# Altium footprint library Con IDC.PcbLib: 105 footprints (part 5 of 7)
Each footprint in its own frame and in the unit in brackets; x right, y up, seen from the top. Pads: shape width x height; smd on the part's side, far side on the other; paste and mask are expansions set on the pad; w line width, h text height; cw(c..) or ccw(c..) is an arc to the next point about the centre after c.
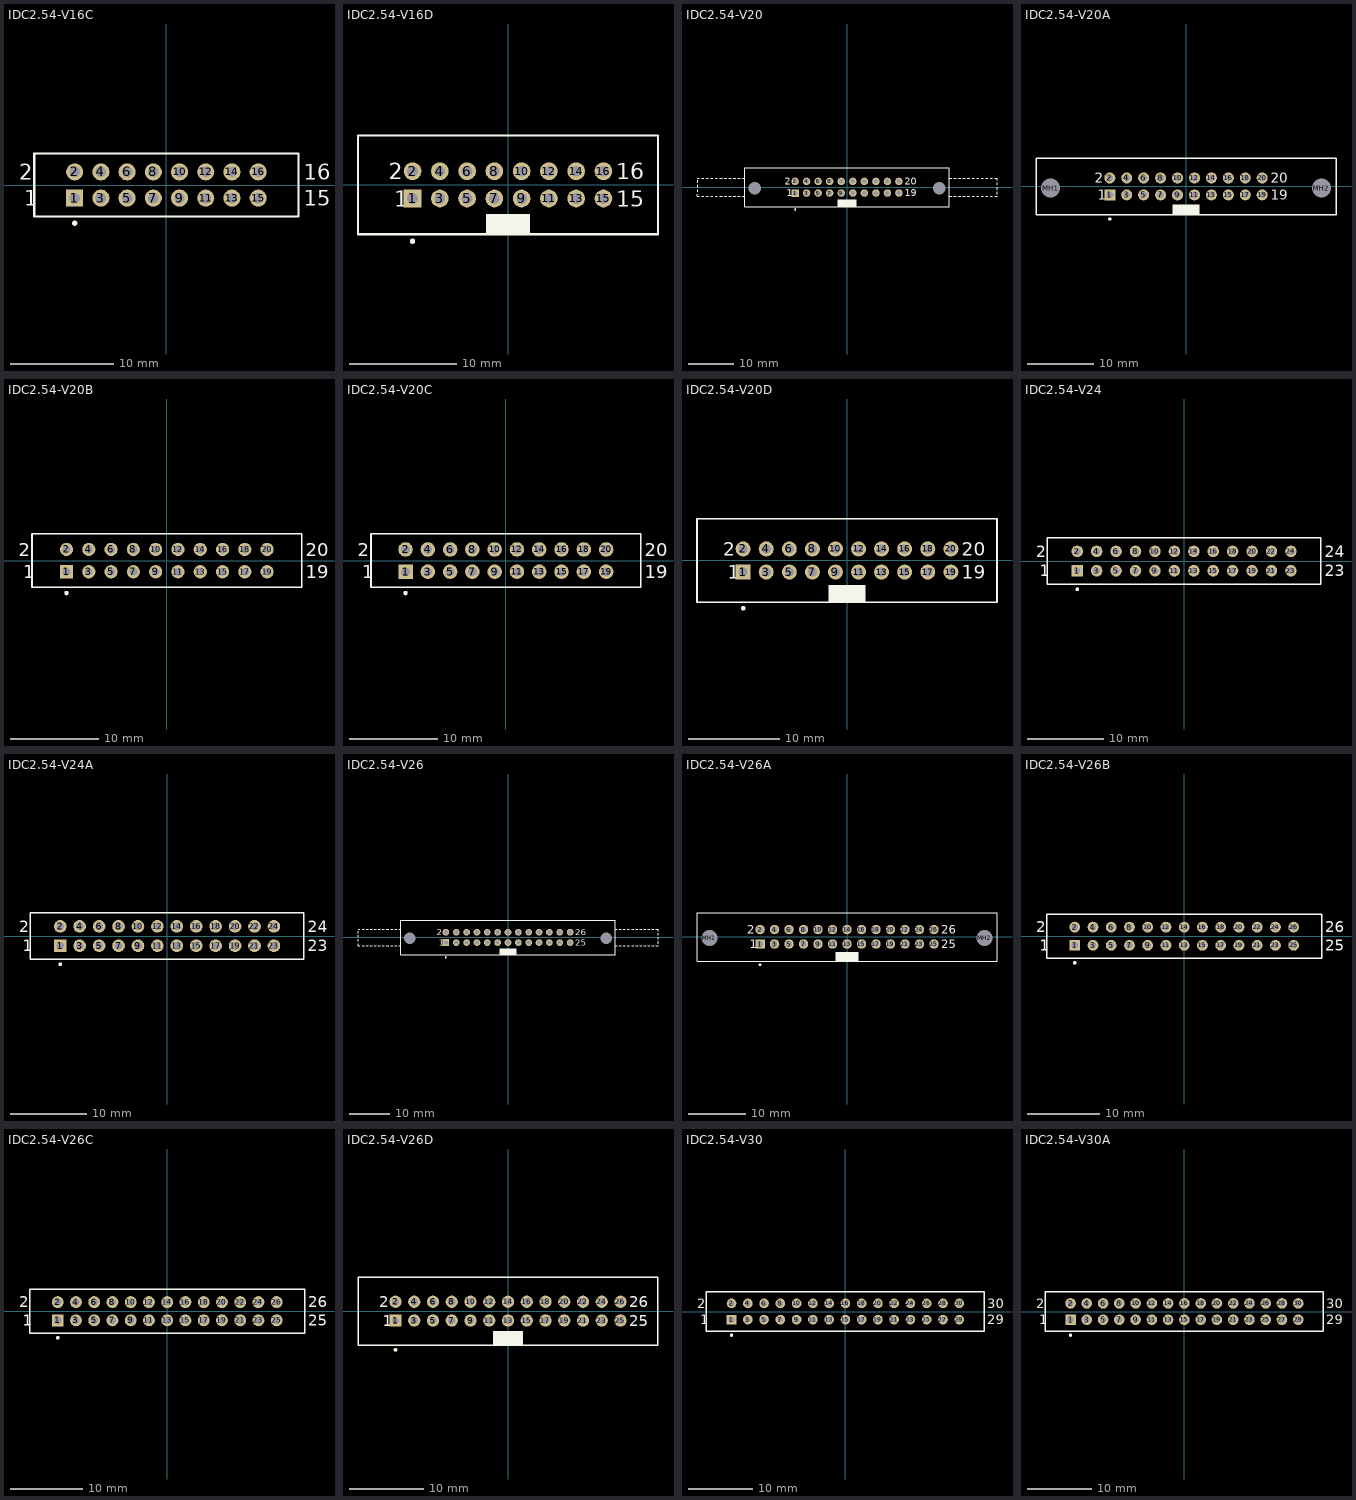
[diagram p4: the footprints below, top view; thin cyan lines are the x and y axes]

## IDC2.54-V16C [mm] "Connector; IDC, PCB Transition - 2 Rows, Thru-Hole; 16 Position; Vertical; Pitch 2.54 mm; Body 25.62 x 6.1 x 7.45 mm (LxWxH), Kinked Contacts"
height 7.45
pads (16):
  rect 1.65x1.65 hole 1: 1(-8.89,-1.27)
  round 1.65 hole 1: 2(-8.89,1.27) 3(-6.35,-1.27) 4(-6.35,1.27) 5(-3.81,-1.27) 6(-3.81,1.27) 7(-1.27,-1.27) 8(-1.27,1.27) 9(1.27,-1.27) 10(1.27,1.27) 11(3.81,-1.27) 12(3.81,1.27) 13(6.35,-1.27) 14(6.35,1.27) 15(8.89,-1.27) 16(8.89,1.27)
Top Overlay:
  circle w0.25: c-8.89,-3.7 r0.125
  lines w0.2: -12.81,-3.05 -12.81,3.05 12.81,3.05 12.81,-3.05 -12.81,-3.05
  text "2" at -14.285,0.52 h1.5
  text "1" at -13.785,-2.02 h1.5
  text "16" at 13.285,0.52 h1.5
  text "15" at 13.285,-2.02 h1.5

## IDC2.54-V16D [mm] "Connector; IDC, Low Profile Male Header, Thru-Hole; 16 Position; Vertical; Pitch 2.54 mm; Body 27.94 x 9.2 x 9.45 mm (LxWxH)"
height 9.45
pads (16):
  rect 1.65x1.65 hole 1: 1(-8.89,-1.27)
  round 1.65 hole 1: 2(-8.89,1.27) 3(-6.35,-1.27) 4(-6.35,1.27) 5(-3.81,-1.27) 6(-3.81,1.27) 7(-1.27,-1.27) 8(-1.27,1.27) 9(1.27,-1.27) 10(1.27,1.27) 11(3.81,-1.27) 12(3.81,1.27) 13(6.35,-1.27) 14(6.35,1.27) 15(8.89,-1.27) 16(8.89,1.27)
Top Overlay:
  circle w0.25: c-8.89,-5.25 r0.125
  rectangle: -2.05,-4.6 2.05,-2.7
  lines w0.2: -13.97,-4.6 -13.97,4.6 13.97,4.6 13.97,-4.6 -13.97,-4.6
  text "2" at -11.09,0.52 h1.5
  text "1" at -10.59,-2.02 h1.5
  text "16" at 10.09,0.52 h1.5
  text "15" at 10.09,-2.02 h1.5

## IDC2.54-V20 [mm] "Connector; IDC, Thru-Hole; 20 Position; Vertical; Pitch 2.54 mm; Body 45.00 x 8.5 x 25.75 mm (LxWxH), Locking levers"
height 25.75
pads (22):
  rect 1.65x1.65 hole 1: 1(-11.43,-1.27)
  round 1.65 hole 1: 2(-11.43,1.27) 3(-8.89,-1.27) 4(-8.89,1.27) 5(-6.35,-1.27) 6(-6.35,1.27) 7(-3.81,-1.27) 8(-3.81,1.27) 9(-1.27,-1.27) 10(-1.27,1.27) 11(1.27,-1.27) 12(1.27,1.27) 13(3.81,-1.27) 14(3.81,1.27) 15(6.35,-1.27) 16(6.35,1.27) 17(8.89,-1.27) 18(8.89,1.27) 19(11.43,-1.27) 20(11.43,1.27)
  round 2.5 hole 2.8 unplated: MH1(-20.32,-0.25) MH2(20.32,-0.25)
Top Overlay:
  circle w0.25: c-11.43,-4.9 r0.125
  rectangle: -2.05,-4.25 2.05,-2.7
  lines w0.2: -33.01,-0.5 -33,-1 ; -33.01,0.5 -33,0 ; -33.01,1.5 -33,1 ; -33,-1.5 -33,-2 -32.5,-2 ; -33,2 -32.5,2 ; -32,-2 -31.5,-2 ; -32,2 -31.5,2 ; -31,-2 -30.5,-2 ; -31,2 -30.5,2 ; -30,-2 -29.5,-2 ; -30,2 -29.5,2 ; -29,-2 -28.5,-2 ; -29,2 -28.5,2 ; -28,-2 -27.5,-2 ; -28,2 -27.5,2 ; -27,-2 -26.5,-2 ; -27,2 -26.5,2 ; -26,-2 -25.5,-2 ; -26,2 -25.5,2 ; -25,-2 -24.5,-2 ; -25,2 -24.5,2 ; -24,-2 -23.5,-2 ; -24,2 -23.5,2 ; -23,-2 -22.5,-2 ; -23,2 -22.5,2 ; 22.5,-2 23,-2 ; 22.5,2 23,2 ; 23.5,-2 24,-2 ; 23.5,2 24,2 ; 24.5,-2 25,-2 ; 24.5,2 25,2 ; 25.5,-2 26,-2 ; 25.5,2 26,2 ; 26.5,-2 27,-2 ; 26.5,2 27,2 ; 27.5,-2 28,-2 ; 27.5,2 28,2 ; 28.5,-2 29,-2 ; 28.5,2 29,2 ; 29.5,-2 30,-2 ; 29.5,2 30,2 ; 30.5,-2 31,-2 ; 30.5,2 31,2 ; 31.5,-2 32,-2 ; 31.5,2 32,2 ; 32.5,-2 33,-2 ; 32.5,2 33,2 33,1.5 ; 33,-1.5 33,-1 ; 33,-0.5 33,0 ; 33,0.5 33,1 ; -22.5,-4.25 -22.5,4.25 22.5,4.25 22.5,-4.25 -22.5,-4.25
  text "2" at -13.71,0.52 h1.5
  text "1" at -13.21,-2.02 h1.5
  text "20" at 12.71,0.52 h1.5
  text "19" at 12.71,-2.02 h1.5

## IDC2.54-V20A [mm] "Connector; IDC, Thru-Hole; 20 Position; Vertical; Pitch 2.54 mm; Body 45.00 x 8.5 x 17.30 mm (LxWxH), Without locking levers"
height 17.3
pads (22):
  rect 1.65x1.65 hole 1: 1(-11.43,-1.27)
  round 1.65 hole 1: 2(-11.43,1.27) 3(-8.89,-1.27) 4(-8.89,1.27) 5(-6.35,-1.27) 6(-6.35,1.27) 7(-3.81,-1.27) 8(-3.81,1.27) 9(-1.27,-1.27) 10(-1.27,1.27) 11(1.27,-1.27) 12(1.27,1.27) 13(3.81,-1.27) 14(3.81,1.27) 15(6.35,-1.27) 16(6.35,1.27) 17(8.89,-1.27) 18(8.89,1.27) 19(11.43,-1.27) 20(11.43,1.27)
  round 2.5 hole 2.8 unplated: MH1(-20.32,-0.25) MH2(20.32,-0.25)
Top Overlay:
  circle w0.25: c-11.43,-4.9 r0.125
  rectangle: -2.05,-4.25 2.05,-2.7
  lines w0.2: -22.5,-4.25 -22.5,4.25 22.5,4.25 22.5,-4.25 -22.5,-4.25
  text "2" at -13.71,0.52 h1.5
  text "1" at -13.21,-2.02 h1.5
  text "20" at 12.71,0.52 h1.5
  text "19" at 12.71,-2.02 h1.5

## IDC2.54-V20B [mm] "Connector; IDC, PCB Transition - 2 Rows, Thru-Hole; 20 Position; Vertical; Pitch 2.54 mm; Body 30.74 x 6.1 x 7.45 mm (LxWxH)"
height 7.45
pads (20):
  rect 1.5x1.5 hole 0.9: 1(-11.43,-1.27)
  round 1.5 hole 0.9: 2(-11.43,1.27) 3(-8.89,-1.27) 4(-8.89,1.27) 5(-6.35,-1.27) 6(-6.35,1.27) 7(-3.81,-1.27) 8(-3.81,1.27) 9(-1.27,-1.27) 10(-1.27,1.27) 11(1.27,-1.27) 12(1.27,1.27) 13(3.81,-1.27) 14(3.81,1.27) 15(6.35,-1.27) 16(6.35,1.27) 17(8.89,-1.27) 18(8.89,1.27) 19(11.43,-1.27) 20(11.43,1.27)
Top Overlay:
  circle w0.25: c-11.43,-3.7 r0.125
  lines w0.2: -15.37,-3.05 15.37,-3.05 15.37,3.05 -15.37,3.05 -15.37,-3.05
  text "19" at 15.845,-2.02 h1.5
  text "20" at 15.845,0.52 h1.5
  text "1" at -16.345,-2.02 h1.5
  text "2" at -16.845,0.52 h1.5

## IDC2.54-V20C [mm] "Connector; IDC, PCB Transition - 2 Rows, Thru-Hole; 20 Position; Vertical; Pitch 2.54 mm; Body 30.74 x 6.1 x 7.45 mm (LxWxH), Kinked Contacts"
height 7.45
pads (20):
  rect 1.65x1.65 hole 1: 1(-11.43,-1.27)
  round 1.65 hole 1: 2(-11.43,1.27) 3(-8.89,-1.27) 4(-8.89,1.27) 5(-6.35,-1.27) 6(-6.35,1.27) 7(-3.81,-1.27) 8(-3.81,1.27) 9(-1.27,-1.27) 10(-1.27,1.27) 11(1.27,-1.27) 12(1.27,1.27) 13(3.81,-1.27) 14(3.81,1.27) 15(6.35,-1.27) 16(6.35,1.27) 17(8.89,-1.27) 18(8.89,1.27) 19(11.43,-1.27) 20(11.43,1.27)
Top Overlay:
  circle w0.25: c-11.43,-3.7 r0.125
  lines w0.2: -15.37,-3.05 -15.37,3.05 15.37,3.05 15.37,-3.05 -15.37,-3.05
  text "2" at -16.845,0.52 h1.5
  text "1" at -16.345,-2.02 h1.5
  text "20" at 15.845,0.52 h1.5
  text "19" at 15.845,-2.02 h1.5

## IDC2.54-V20D [mm] "Connector; IDC, Low Profile Male Header, Thru-Hole; 20 Position; Vertical; Pitch 2.54 mm; Body 33.02 x 9.2 x 9.45 mm (LxWxH)"
height 9.45
pads (20):
  rect 1.65x1.65 hole 1: 1(-11.43,-1.27)
  round 1.65 hole 1: 2(-11.43,1.27) 3(-8.89,-1.27) 4(-8.89,1.27) 5(-6.35,-1.27) 6(-6.35,1.27) 7(-3.81,-1.27) 8(-3.81,1.27) 9(-1.27,-1.27) 10(-1.27,1.27) 11(1.27,-1.27) 12(1.27,1.27) 13(3.81,-1.27) 14(3.81,1.27) 15(6.35,-1.27) 16(6.35,1.27) 17(8.89,-1.27) 18(8.89,1.27) 19(11.43,-1.27) 20(11.43,1.27)
Top Overlay:
  circle w0.25: c-11.43,-5.25 r0.125
  rectangle: -2.05,-4.6 2.05,-2.7
  lines w0.2: -16.51,-4.6 16.51,-4.6 16.51,4.6 -16.51,4.6 -16.51,-4.6
  text "19" at 12.63,-2.02 h1.5
  text "20" at 12.63,0.52 h1.5
  text "1" at -13.13,-2.02 h1.5
  text "2" at -13.63,0.52 h1.5

## IDC2.54-V24 [mm] "Connector; IDC, PCB Transition - 2 Rows, Thru-Hole; 24 Position; Vertical; Pitch 2.54 mm; Body 35.78 x 6.1 x 7.45 mm (LxWxH)"
height 7.45
pads (24):
  rect 1.5x1.5 hole 0.9: 1(-13.97,-1.27)
  round 1.5 hole 0.9: 2(-13.97,1.27) 3(-11.43,-1.27) 4(-11.43,1.27) 5(-8.89,-1.27) 6(-8.89,1.27) 7(-6.35,-1.27) 8(-6.35,1.27) 9(-3.81,-1.27) 10(-3.81,1.27) 11(-1.27,-1.27) 12(-1.27,1.27) 13(1.27,-1.27) 14(1.27,1.27) 15(3.81,-1.27) 16(3.81,1.27) 17(6.35,-1.27) 18(6.35,1.27) 19(8.89,-1.27) 20(8.89,1.27) 21(11.43,-1.27) 22(11.43,1.27) 23(13.97,-1.27) 24(13.97,1.27)
Top Overlay:
  circle w0.25: c-13.97,-3.7 r0.125
  lines w0.2: -17.89,-3.05 17.89,-3.05 17.89,3.05 -17.89,3.05 -17.89,-3.05
  text "23" at 18.365,-2.02 h1.5
  text "24" at 18.365,0.52 h1.5
  text "1" at -18.865,-2.02 h1.5
  text "2" at -19.365,0.52 h1.5

## IDC2.54-V24A [mm] "Connector; IDC, PCB Transition - 2 Rows, Thru-Hole; 24 Position; Vertical; Pitch 2.54 mm; Body 35.78 x 6.1 x 7.45 mm (LxWxH), Kinked Contacts"
height 7.45
pads (24):
  rect 1.65x1.65 hole 1: 1(-13.97,-1.27)
  round 1.65 hole 1: 2(-13.97,1.27) 3(-11.43,-1.27) 4(-11.43,1.27) 5(-8.89,-1.27) 6(-8.89,1.27) 7(-6.35,-1.27) 8(-6.35,1.27) 9(-3.81,-1.27) 10(-3.81,1.27) 11(-1.27,-1.27) 12(-1.27,1.27) 13(1.27,-1.27) 14(1.27,1.27) 15(3.81,-1.27) 16(3.81,1.27) 17(6.35,-1.27) 18(6.35,1.27) 19(8.89,-1.27) 20(8.89,1.27) 21(11.43,-1.27) 22(11.43,1.27) 23(13.97,-1.27) 24(13.97,1.27)
Top Overlay:
  circle w0.25: c-13.97,-3.7 r0.125
  lines w0.2: -17.89,-3.05 -17.89,3.05 17.89,3.05 17.89,-3.05 -17.89,-3.05
  text "2" at -19.365,0.52 h1.5
  text "1" at -18.865,-2.02 h1.5
  text "24" at 18.365,0.52 h1.5
  text "23" at 18.365,-2.02 h1.5

## IDC2.54-V26 [mm] "Connector; IDC, Thru-Hole; 26 Position; Vertical; Pitch 2.54 mm; Body 52.60 x 8.5 x 25.75 mm (LxWxH), Locking levers"
height 25.75
pads (28):
  rect 1.65x1.65 hole 1: 1(-15.24,-1.27)
  round 1.65 hole 1: 2(-15.24,1.27) 3(-12.7,-1.27) 4(-12.7,1.27) 5(-10.16,-1.27) 6(-10.16,1.27) 7(-7.62,-1.27) 8(-7.62,1.27) 9(-5.08,-1.27) 10(-5.08,1.27) 11(-2.54,-1.27) 12(-2.54,1.27) 13(0,-1.27) 14(0,1.27) 15(2.54,-1.27) 16(2.54,1.27) 17(5.08,-1.27) 18(5.08,1.27) 19(7.62,-1.27) 20(7.62,1.27) 21(10.16,-1.27) 22(10.16,1.27) 23(12.7,-1.27) 24(12.7,1.27) 25(15.24,-1.27) 26(15.24,1.27)
  round 2.5 hole 2.8 unplated: MH1(-24.13,-0.25) MH2(24.13,-0.25)
Top Overlay:
  circle w0.25: c-15.24,-4.9 r0.125
  rectangle: -2.05,-4.25 2.05,-2.7
  lines w0.2: -36.8,-1.5 -36.8,-2 -36.31,-2 ; -36.8,-1 -36.8,-0.5 ; -36.8,0 -36.8,0.5 ; -36.8,1 -36.8,1.5 ; -36.8,2 -36.31,2 ; -35.81,-2 -35.31,-2 ; -35.81,2 -35.31,2 ; -34.81,-2 -34.31,-2 ; -34.81,2 -34.31,2 ; -33.81,-2 -33.31,-2 ; -33.81,2 -33.31,2 ; -32.81,-2 -32.31,-2 ; -32.81,2 -32.31,2 ; -31.81,-2 -31.31,-2 ; -31.81,2 -31.31,2 ; -30.81,-2 -30.31,-2 ; -30.81,2 -30.31,2 ; -29.81,-2 -29.31,-2 ; -29.81,2 -29.31,2 ; -28.81,-2 -28.31,-2 ; -28.81,2 -28.31,2 ; -27.81,-2 -27.31,-2 ; -27.81,2 -27.31,2 ; -26.81,-2 -26.3,-2 ; -26.81,2 -26.3,2 ; 26.3,-2 26.8,-2 ; 26.3,2 26.8,2 ; 27.3,-2 27.8,-2 ; 27.3,2 27.8,2 ; 28.3,-2 28.8,-2 ; 28.3,2 28.8,2 ; 29.3,-2 29.8,-2 ; 29.3,2 29.8,2 ; 30.3,-2 30.8,-2 ; 30.3,2 30.8,2 ; 31.3,-2 31.8,-2 ; 31.3,2 31.8,2 ; 32.3,-2 32.8,-2 ; 32.3,2 32.8,2 ; 33.3,-2 33.8,-2 ; 33.3,2 33.8,2 ; 34.3,-2 34.8,-2 ; 34.3,2 34.8,2 ; 35.3,-2 35.8,-2 ; 35.3,2 35.8,2 ; 36.3,-2 36.8,-2 ; 36.3,2 36.8,2 36.8,1.5 ; 36.8,-1.5 36.8,-1 ; 36.8,-0.5 36.8,0 ; 36.8,0.5 36.8,1 ; -26.3,-4.25 26.3,-4.25 26.3,4.25 -26.3,4.25 -26.3,-4.25
  text "25" at 16.52,-2.02 h1.5
  text "26" at 16.52,0.52 h1.5
  text "1" at -17.02,-2.02 h1.5
  text "2" at -17.52,0.52 h1.5

## IDC2.54-V26A [mm] "Connector; IDC, Thru-Hole; 26 Position; Vertical; Pitch 2.54 mm; Body 52.60 x 8.5 x 17.30 mm (LxWxH), Without locking levers"
height 17.3
pads (28):
  rect 1.65x1.65 hole 1: 1(-15.24,-1.27)
  round 1.65 hole 1: 2(-15.24,1.27) 3(-12.7,-1.27) 4(-12.7,1.27) 5(-10.16,-1.27) 6(-10.16,1.27) 7(-7.62,-1.27) 8(-7.62,1.27) 9(-5.08,-1.27) 10(-5.08,1.27) 11(-2.54,-1.27) 12(-2.54,1.27) 13(0,-1.27) 14(0,1.27) 15(2.54,-1.27) 16(2.54,1.27) 17(5.08,-1.27) 18(5.08,1.27) 19(7.62,-1.27) 20(7.62,1.27) 21(10.16,-1.27) 22(10.16,1.27) 23(12.7,-1.27) 24(12.7,1.27) 25(15.24,-1.27) 26(15.24,1.27)
  round 2.5 hole 2.8 unplated: MH1(-24.13,-0.25) MH2(24.13,-0.25)
Top Overlay:
  circle w0.25: c-15.24,-4.9 r0.125
  rectangle: -2.05,-4.25 2.05,-2.7
  lines w0.2: -26.3,-4.25 -26.3,4.25 26.3,4.25 26.3,-4.25 -26.3,-4.25
  text "2" at -17.52,0.52 h1.5
  text "1" at -17.02,-2.02 h1.5
  text "26" at 16.52,0.52 h1.5
  text "25" at 16.52,-2.02 h1.5

## IDC2.54-V26B [mm] "Connector; IDC, PCB Transition - 2 Rows, Thru-Hole; 26 Position; Vertical; Pitch 2.54 mm; Body 38.32 x 6.1 x 7.45 mm (LxWxH)"
height 7.45
pads (26):
  rect 1.5x1.5 hole 0.9: 1(-15.24,-1.27)
  round 1.5 hole 0.9: 2(-15.24,1.27) 3(-12.7,-1.27) 4(-12.7,1.27) 5(-10.16,-1.27) 6(-10.16,1.27) 7(-7.62,-1.27) 8(-7.62,1.27) 9(-5.08,-1.27) 10(-5.08,1.27) 11(-2.54,-1.27) 12(-2.54,1.27) 13(0,-1.27) 14(0,1.27) 15(2.54,-1.27) 16(2.54,1.27) 17(5.08,-1.27) 18(5.08,1.27) 19(7.62,-1.27) 20(7.62,1.27) 21(10.16,-1.27) 22(10.16,1.27) 23(12.7,-1.27) 24(12.7,1.27) 25(15.24,-1.27) 26(15.24,1.27)
Top Overlay:
  circle w0.25: c-15.24,-3.7 r0.125
  lines w0.2: -19.16,-3.05 19.16,-3.05 19.16,3.05 -19.16,3.05 -19.16,-3.05
  text "25" at 19.635,-2.02 h1.5
  text "26" at 19.635,0.52 h1.5
  text "1" at -20.135,-2.02 h1.5
  text "2" at -20.635,0.52 h1.5

## IDC2.54-V26C [mm] "Connector; IDC, PCB Transition - 2 Rows, Thru-Hole; 26 Position; Vertical; Pitch 2.54 mm; Body 38.32 x 6.1 x 7.45 mm (LxWxH), Kinked Contacts"
height 7.45
pads (26):
  rect 1.65x1.65 hole 1: 1(-15.24,-1.27)
  round 1.65 hole 1: 2(-15.24,1.27) 3(-12.7,-1.27) 4(-12.7,1.27) 5(-10.16,-1.27) 6(-10.16,1.27) 7(-7.62,-1.27) 8(-7.62,1.27) 9(-5.08,-1.27) 10(-5.08,1.27) 11(-2.54,-1.27) 12(-2.54,1.27) 13(0,-1.27) 14(0,1.27) 15(2.54,-1.27) 16(2.54,1.27) 17(5.08,-1.27) 18(5.08,1.27) 19(7.62,-1.27) 20(7.62,1.27) 21(10.16,-1.27) 22(10.16,1.27) 23(12.7,-1.27) 24(12.7,1.27) 25(15.24,-1.27) 26(15.24,1.27)
Top Overlay:
  circle w0.25: c-15.24,-3.7 r0.125
  lines w0.2: -19.16,-3.05 19.16,-3.05 19.16,3.05 -19.16,3.05 -19.16,-3.05
  text "25" at 19.635,-2.02 h1.5
  text "26" at 19.635,0.52 h1.5
  text "1" at -20.135,-2.02 h1.5
  text "2" at -20.635,0.52 h1.5

## IDC2.54-V26D [mm] "Connector; IDC, Low Profile Male Header, Thru-Hole; 26 Position; Vertical; Pitch 2.54 mm; Body 40.64 x 9.2 x 9.45 mm (LxWxH)"
height 9.45
pads (26):
  rect 1.65x1.65 hole 1: 1(-15.24,-1.27)
  round 1.65 hole 1: 2(-15.24,1.27) 3(-12.7,-1.27) 4(-12.7,1.27) 5(-10.16,-1.27) 6(-10.16,1.27) 7(-7.62,-1.27) 8(-7.62,1.27) 9(-5.08,-1.27) 10(-5.08,1.27) 11(-2.54,-1.27) 12(-2.54,1.27) 13(0,-1.27) 14(0,1.27) 15(2.54,-1.27) 16(2.54,1.27) 17(5.08,-1.27) 18(5.08,1.27) 19(7.62,-1.27) 20(7.62,1.27) 21(10.16,-1.27) 22(10.16,1.27) 23(12.7,-1.27) 24(12.7,1.27) 25(15.24,-1.27) 26(15.24,1.27)
Top Overlay:
  circle w0.25: c-15.24,-5.25 r0.125
  rectangle: -2.05,-4.6 2.05,-2.7
  lines w0.2: -20.32,-4.6 20.32,-4.6 20.32,4.6 -20.32,4.6 -20.32,-4.6
  text "25" at 16.44,-2.02 h1.5
  text "26" at 16.44,0.52 h1.5
  text "1" at -16.94,-2.02 h1.5
  text "2" at -17.44,0.52 h1.5

## IDC2.54-V30 [mm] "Connector; IDC, PCB Transition - 2 Rows, Thru-Hole; 30 Position; Vertical; Pitch 2.54 mm; Body 43.40 x 6.1 x 7.45 mm (LxWxH)"
height 7.45
pads (30):
  rect 1.5x1.5 hole 0.9: 1(-17.78,-1.27)
  round 1.5 hole 0.9: 2(-17.78,1.27) 3(-15.24,-1.27) 4(-15.24,1.27) 5(-12.7,-1.27) 6(-12.7,1.27) 7(-10.16,-1.27) 8(-10.16,1.27) 9(-7.62,-1.27) 10(-7.62,1.27) 11(-5.08,-1.27) 12(-5.08,1.27) 13(-2.54,-1.27) 14(-2.54,1.27) 15(0,-1.27) 16(0,1.27) 17(2.54,-1.27) 18(2.54,1.27) 19(5.08,-1.27) 20(5.08,1.27) 21(7.62,-1.27) 22(7.62,1.27) 23(10.16,-1.27) 24(10.16,1.27) 25(12.7,-1.27) 26(12.7,1.27) 27(15.24,-1.27) 28(15.24,1.27) 29(17.78,-1.27) 30(17.78,1.27)
Top Overlay:
  circle w0.25: c-17.78,-3.7 r0.125
  lines w0.2: -21.7,-3.05 21.7,-3.05 21.7,3.05 -21.7,3.05 -21.7,-3.05
  text "29" at 22.175,-2.02 h1.5
  text "30" at 22.175,0.52 h1.5
  text "1" at -22.675,-2.02 h1.5
  text "2" at -23.175,0.52 h1.5

## IDC2.54-V30A [mm] "Connector; IDC, PCB Transition - 2 Rows, Thru-Hole; 30 Position; Vertical; Pitch 2.54 mm; Body 43.40 x 6.1 x 7.45 mm (LxWxH), Kinked Contacts"
height 7.45
pads (30):
  rect 1.65x1.65 hole 1: 1(-17.78,-1.27)
  round 1.65 hole 1: 2(-17.78,1.27) 3(-15.24,-1.27) 4(-15.24,1.27) 5(-12.7,-1.27) 6(-12.7,1.27) 7(-10.16,-1.27) 8(-10.16,1.27) 9(-7.62,-1.27) 10(-7.62,1.27) 11(-5.08,-1.27) 12(-5.08,1.27) 13(-2.54,-1.27) 14(-2.54,1.27) 15(0,-1.27) 16(0,1.27) 17(2.54,-1.27) 18(2.54,1.27) 19(5.08,-1.27) 20(5.08,1.27) 21(7.62,-1.27) 22(7.62,1.27) 23(10.16,-1.27) 24(10.16,1.27) 25(12.7,-1.27) 26(12.7,1.27) 27(15.24,-1.27) 28(15.24,1.27) 29(17.78,-1.27) 30(17.78,1.27)
Top Overlay:
  circle w0.25: c-17.78,-3.7 r0.125
  lines w0.2: -21.7,-3.05 21.7,-3.05 21.7,3.05 -21.7,3.05 -21.7,-3.05
  text "29" at 22.175,-2.02 h1.5
  text "30" at 22.175,0.52 h1.5
  text "1" at -22.675,-2.02 h1.5
  text "2" at -23.175,0.52 h1.5